# Altium schematic symbol library CONN - CMP-17439-000151-1.SchLib: 1 symbol
Pins are listed as number, name and electrical type; pins without a type are passive.

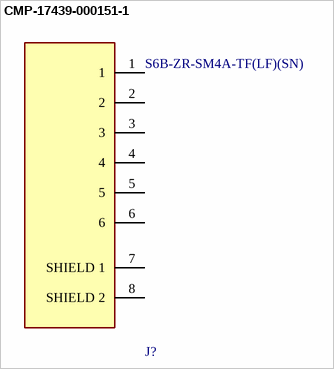
[diagram p0: symbol CMP-17439-000151-1]

## CMP-17439-000151-1
designator J?, comment S6B-ZR-SM4A-TF(LF)(SN)
CONN HEADER SMD R/A 6POS 1.5MM; Max Voltage Rating (DC): 50V; Number of Contacts: 6; Current Rating: 1A; Gender: Male; Contact Resistance: 30mR; Mount: Surface Mount; Lead Free: Lead Free; Height: 7.2mm; Contact Finish - Mating: TIN; Contact Type: Male Pin; Contact Shape: Circular; Insulation Material: Nylon; Contact Material: Brass; Pitch: 1.5mm; Flammability Rating: UL94 V-0; Termination: Solder; Depth: 6.5mm; Housing Color: Beige; Min Operating Temperature: -25°C; Connector Type: Header; Length: 12mm; Housing Material: Polyamide; Fastening Type: Detent; Insulation Color: Natural; Max Voltage Rating (AC): 50V; Orientation: Right Angle; Number of Positions: 6; Max Operating Temperature: 85°C; Voltage Rating: 50V; Max Current Rating: 1A; Series: ZH; Color: Natural; Width: 3.5mm; Number of Rows: 1; Packaging: Tape and Reel; Contact Plating: Copper; Supplier 1: Mouser; Supplier Part Number 1: 306-S6BZRSM4ATFLFSN
footprint FP-S6B-ZR-SM4A-TF_LF_SN-MFG
pins: 1, 2, 3, 4, 5, 6, 7 SHIELD 1, 8 SHIELD 2